# Altium schematic symbol library Ground Station.SCHLIB: 23 symbols
Pins are listed as number, name and electrical type; pins without a type are passive.

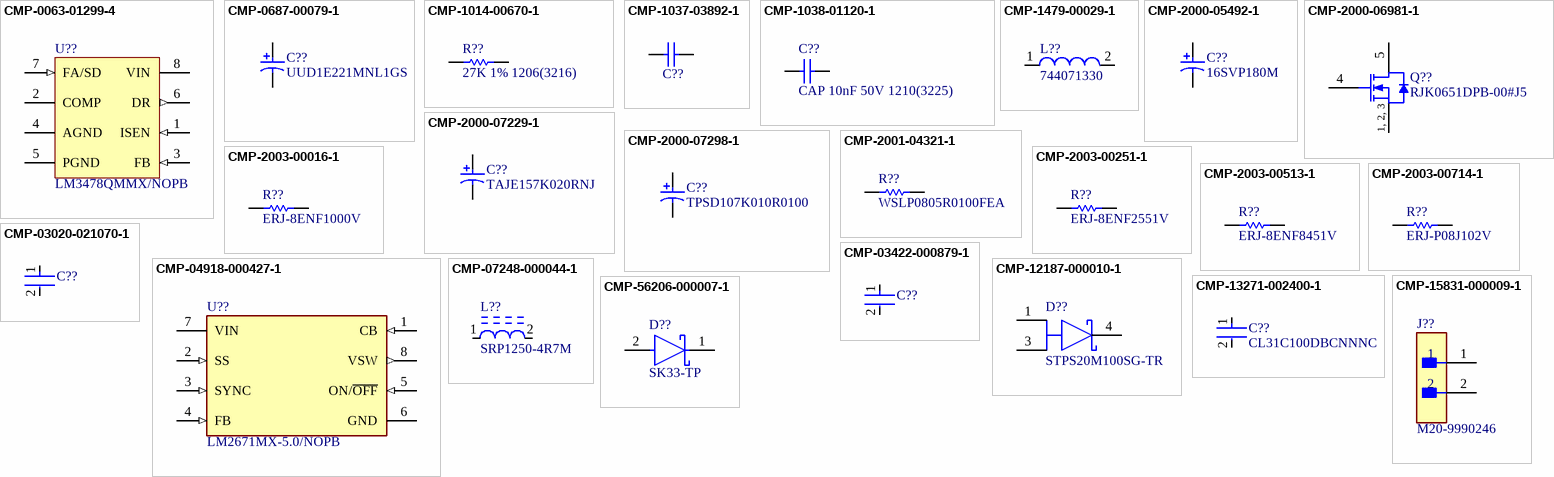
[diagram p0: symbols CMP-0063-01299-4 to CMP-56206-000007-1]

## CMP-0063-01299-4
designator U??, comment LM3478QMMX/NOPB
High Efficiency Low-Side N-Channel Controller for Switching Regulator, Automotive Grade 1, 8-pin MSOP, Pb-Free, 3500 Reel; Manufacturer: Texas Instruments; Manufacturer: TI National Semiconductor; CompType: MiscPower; High-Reliability: Y; PowerWise: N; PackageTopMarking: ZXTT*SSFB; PackageReference: DGK0008A; ComponentLink1Description: Datasheet URL; PackageDescription: MINI SOIC, .118 x .118 x .034in, 8 Lead, .0256in Pitch; ComponentLink1URL: http://www.ti.com/general/docs/lit/getliterature.tsp?genericPartNumber=LM3478Q-Q1&fileType=pdf; PartNumber: LM3478QMMX/NOPB; RoHS: Y; Code_JEDEC: MO-187-AA; PinCount: 8; Manufacturer Part Number: LM3478QMMX/NOPB
footprint DGK0008A_N (TSOP, 8-Leads, Body 3.1x3.1mm, Pitch 0.65mm, IPC Medium Density)
footprint DGK0008A_L (TSOP, 8-Leads, Body 3.1x3.1mm, Pitch 0.65mm, IPC High Density)
footprint DGK0008A_M (TSOP, 8-Leads, Body 3.1x3.1mm, Pitch 0.65mm, IPC Low Density)
pins: 1 ISEN (in), 2 COMP, 3 FB (in), 4 AGND (power), 5 PGND (power), 6 DR (out), 7 FA/SD (in), 8 VIN (power)

## CMP-0687-00079-1
designator C??, comment UUD1E221MNL1GS
Aluminum Electrolytic Capacitor, UD Series, Low Impedance, 220 uF, 25 V, + / - 20%, -55 to 105 degC, Chip Type, 8 x 10 mm D x L, Pb-Free, Reel; Manufacturer: Nichicon; Impedance: 0.17 Ohm; Tolerance Rated Capacitance: -20 to 20%; Packing: Dia382mm Reel; Endurance Time: 5000 h; Rated Voltage: 25 V; Rated Ripple Current (at 100kHz): 450 mA; Rated Capacitance: 220 uF; PartNumber: UUD1E221MNL1GS; DatasheetVersion: 08/2012; ComponentLink1Description: Manufacturer URL; Length: 10 mm; ComponentLink3Description: Package Specification; RoHS: TRUE; ComponentLink2Description: Datasheet; Diameter: 8 mm; ComponentLink2URL: http://products.nichicon.co.jp/en/pdf/XJA043/e-ud.pdf; ComponentLink3URL: http://products.nichicon.co.jp/en/pdf/XJA043/e-ud.pdf; PackageReference: CAPAE-D8H10; ComponentLink1URL: http://www.nichicon.co.jp/; PackageDescription: 2-Pin Surface Mount Device, Diameter 8 mm, Height 10 mm, Pitch 6.5 mm; Mounting Technology: Surface Mount; Manufacturer Part Number: UUD1E221MNL1GS
footprint NIC-CAPA2-8X10_V (Aluminum Electrolytic Capacitor, Diameter 8mm, Height 10.8mm, Pitch 6.5mm)
pins: 1, 2

## CMP-1014-00670-1
designator R??, comment 27K 1% 1206(3216)
27K 0.25W 1% 1206 (3216 Metric)  SMD; Manufacturer: Yageo; Manufacturer Part Number: RC1206FR-0727KL; Manufacturer: Vishay Dale; Manufacturer Part Number: CRCW120627K0FKEB; Manufacturer: Vishay; Manufacturer Part Number: CRCW120627K0FKEA; Manufacturer Part Number: CRCW120627K0FKTA; Manufacturer: Rohm; Manufacturer Part Number: MCR18EZPF2702; Manufacturer: Panasonic; Manufacturer Part Number: ERJ-8ENF2702V; Manufacturer: Bourns; Manufacturer Part Number: CR1206-FX-2702ELF; Value: 27000.00 Ohm; Case-EIA: 1206; Case-Metric: 3216; Power: 0.25 W; Tolerance: 1 %; Technology: SMT
footprint RESC1206(3216)_M (Chip Resistor, Body 3.2x1.6mm, IPC Low Density)
footprint RESC1206(3216)_N (Chip Resistor, Body 3.2x1.6mm, IPC Medium Density)
footprint RESC1206(3216)_L (Chip Resistor, Body 3.2x1.6mm, IPC High Density)
pins: 1, 2
1 alternate drawing of the same symbol

## CMP-1037-03892-1
designator C??, comment CAP 33nF 100V 1206(3216)  (value not drawn)
CAP 33nF 100V ±10% 1206 (3216 Metric) Thickness 1.3mm SMD; Manufacturer: Kyocera AVX; Manufacturer Part Number: 12061C333KAT2A; Manufacturer: Murata; Manufacturer Part Number: GRM31MR72A333KA01L; Manufacturer: Vishay Vitramon; Manufacturer Part Number: VJ1206Y333KXBCW1BC; Manufacturer: KEMET; Manufacturer Part Number: C1206C333K1RAC; Manufacturer Part Number: VJ1206Y333KXBPW1BC; Manufacturer Part Number: C1206C333K1GACTU; Manufacturer Part Number: C1206C333K1RACTU; Manufacturer Part Number: C1206C333K1RACTM; Manufacturer Part Number: 12061C333KAT4A; Manufacturer Part Number: C1206C333K1GAC; Tolerance: Â±10%; Case-Metric: 3216; Case-EIA: 1206; Technology: SMT; Rated Voltage: 100 V; Value: 33nF; Max Thickness: 1.3 mm
footprint CAPC1206(3216)130_L (Chip Capacitor, Body 3.2x1.6mm, Height 1.3mm, IPC High Density)
footprint CAPC1206(3216)130_N (Chip Capacitor, Body 3.2x1.6mm, Height 1.3mm, IPC Medium Density)
footprint CAPC1206(3216)130_M (Chip Capacitor, Body 3.2x1.6mm, Height 1.3mm, IPC Low Density)
pins: 1, 2
1 alternate drawing of the same symbol

## CMP-1038-01120-1
designator C??, comment CAP 10nF 50V 1210(3225)
CAP 10nF 50V ±5% 1210 (3225 Metric) Thickness 1mm SMD; Manufacturer: Kyocera AVX; Manufacturer Part Number: 12105A103JAT2A; Manufacturer Part Number: 12105C103JAT2A; Manufacturer Part Number: 12105A103JAT4A; Manufacturer Part Number: 12105A103JAT9A; Manufacturer: KEMET; Manufacturer Part Number: C1210C103J5RAC; Manufacturer Part Number: C1210C103J5RACTM; Manufacturer Part Number: C1210C103J5RACTU; Case-EIA: 1210; Case-Metric: 3225; Tolerance: Â±5%; Technology: SMT; Max Thickness: 1 mm; Value: 10nF; Rated Voltage: 50 V
footprint CAPC1210(3225)100_L (Chip Capacitor, Body 3.2x2.5mm, Height 1mm, IPC High Density)
footprint CAPC1210(3225)100_M (Chip Capacitor, Body 3.2x2.5mm, Height 1mm, IPC Low Density)
footprint CAPC1210(3225)100_N (Chip Capacitor, Body 3.2x2.5mm, Height 1mm, IPC Medium Density)
pins: 1, 2
1 alternate drawing of the same symbol

## CMP-1479-00029-1
designator L??, comment 744071330
SMD Shielded Tiny Power Inductor WE-TPC, L=33.0 µH; Manufacturer: Wuerth Elektronik; Manufacturer: Wurth Electronics; Inductance: 33.0 ÂµH; PartNumber: 744071330; ComponentLink2URL: http://www.we-online.de/katalog/media/pdf/744071330.pdf; ComponentLink2Description: Datasheet; ComponentLink1Description: Manufacturer URL; PackageReference: WE-TPC 8043; ComponentLink1URL: http://www.we-online.com; Manufacturer Part Number: 744071330
footprint WE-TPC 8043 (SMD Inductor, 2-Leads, Body 8,0x8,0mm)
pins: 1, 2

## CMP-2000-05492-1
designator C??, comment 16SVP180M
Conductive Polymer Aluminum Solid Capacitor, 180 uF, +/- 20%, 16 V, -55 to 105 degC, 2-Pin SMD (E12), RoHS, Tape and Reel; Manufacturer: Panasonic; Voltage Rating: 16V; Product Range: PANASONIC-SVPSeries; Capacitance: 180µF; Ripple Current AC: 3.64A; ESR: 0.02ohm; Capacitor Case Style: RadialCan-SMD; Life Time @ Temperature: 2000hours@105°C; SVHC: ToBeAdvised; Package Description: 2-Pin Surface Mount Device, Body 8.3 x 8.3 mm; Datasheet URL: https://industrial.panasonic.com/cdbs/www-data/pdf/AAB8000/AAB8000C193.pdf; Manufacturer URL: http://www.panasonic.com/; Datasheet Version: 11/2015; Packaging: CutTape; Diameter: 8mm; Package Reference: SVP-E12; Height: 11.9mm; Mounting Technology: SurfaceMount; Operating Temperature Min: -55°C; Capacitance Tolerance: ±20%; Operating Temperature Max: 105°C; Manufacturer Part Number: 16SVP180M
footprint PNSC-SVP-E12_L (Aluminum Electrolytic Capacitor, Body 8.30x8.30x12.00mm, IPC High Density)
footprint PNSC-SVP-E12_M (Aluminum Electrolytic Capacitor, Body 8.30x8.30x12.00mm, IPC Low Density)
footprint PNSC-SVP-E12_N (Aluminum Electrolytic Capacitor, Body 8.30x8.30x12.00mm, IPC Medium Density)
pins: 1, 2

## CMP-2000-06981-1
designator Q??, comment RJK0651DPB-00#J5
Silicon N Channel Power MOSFET Power Switching, 60 V, 25 A, 14 Ohm, 5-Pin LFPAK, RoHS, Tape and Reel; Manufacturer: Renesas; Gate Charge (Qg) @ Vgs: 15nC@4.5V; Current - Continuous Drain (Id) @ 25°C: 25A(Ta); FET Feature: LogicLevelGate,4.5VDrive; Input Capacitance (Ciss) @ Vds: 2030pF@10V; Drain to Source Voltage (Vdss): 60V; PCN Assembly/Origin: PowerTransistorsRelocation12/Nov/2013; Rds On (Max) @ Id, Vgs: 14mOhm@12.5A,10V; Other Names: RJK0651DPB-00#J5-NDRJK0651DPB-00#J5TR; FET Type: MOSFETN-Channel,MetalOxide; Power - Max: 45W; Online Catalog: N-ChannelLogicLevelGateFETs; Mounting Technology: SurfaceMount; Datasheet Version: Rev. 2.00, 04/2013; Datasheet URL: https://www.renesas.com/en-us/doc/products/transistor/001/r07ds0076ej0200_rjk0651dpb.pdf; Vgs(th) (Max) @ Id: -; Series: -; Standard Package: 2,500; Package Reference: LFPAK-5; Manufacturer URL: https://www.renesas.com/; Family: FETs-Single; Mounting Type: SurfaceMount; Package / Case: SC-100,SOT-669; Package Description: 5-Pin Surface Mount Device, Body 5.1 x 3.95 mm, Pitch 1.27 mm; Packaging: Tape&Reel(TR); Category: DiscreteSemiconductorProducts; Supplier Device Package: LFPAK; Manufacturer Part Number: RJK0651DPB-00#J5
footprint RENE-LFPAK-5_L (DPAK, 5-Leads, Body 5.3x3.95mm, Pitch 1.27mm, IPC High Density)
footprint RENE-LFPAK-5_M (DPAK, 5-Leads, Body 5.3x3.95mm, Pitch 1.27mm, IPC Low Density)
footprint RENE-LFPAK-5_N (DPAK, 5-Leads, Body 5.3x3.95mm, Pitch 1.27mm, IPC Medium Density)
pins: 1 SOURCE, 2 SOURCE, 3 SOURCE, 4 GATE, 5 DRAIN
text: 1, 2, 3

## CMP-2000-07229-1
designator C??, comment TAJE157K020RNJ
Standard Tantalum Capacitor, 150 uF, +/- 10%, 20 V, -55 to 125 degC, 2-Pin SMD, RoHS, Tape and Reel; Manufacturer: AVX; Manufacturer Size Code: E; PCN Part Number: TAJSeriesSuffix08/Dec/2008; Manufacturer: Kyocera AVX; Capacitance: 150µF; Catalog Drawings: TAJSeriesSideTAJSeries; Type: Molded; Online Catalog: TAJSeries; Product Training Modules: ComponentSolutionsforSmartMeterApplications; ESR (Equivalent Series Resistance): 300mOhm; Voltage - Rated: 20V; EDA / CAD Models: DownloadfromAcceleratedDesigns; Other Names: 478-2360-1; Package Description: 2-Pin Surface Mount Device, Body 7.3 x 4.35 mm; Manufacturer URL: http://www.avx.com/; Mounting Technology: SurfaceMount; Standard Package: 1; Tolerance: ±10%; Features: GeneralPurpose; Operating Temperature: -55°C~125°C; Family: TantalumCapacitors; Size / Dimension: 0.287"Lx0.169"W(7.30mmx4.30mm); Series: TAJ; Category: Capacitors; Lead Spacing: -; Packaging: CutTape(CT); Datasheet Version: 02/2016; Mounting Type: SurfaceMount; Datasheet URL: http://datasheets.avx.com/TAJ.pdf; Package / Case: 2917(7343Metric); Lifetime @ Temp.: -; Package Reference: 7343-43; Height - Seated (Max): 0.169"(4.30mm); Manufacturer Part Number: TAJE157K020RNJ
footprint AVX-7343-43_L (Molded Capacitor, 2-Leads, Body 7.5x4.5mm, IPC High Density)
footprint AVX-7343-43_M (Molded Capacitor, 2-Leads, Body 7.5x4.5mm, IPC Low Density)
footprint AVX-7343-43_N (Molded Capacitor, 2-Leads, Body 7.5x4.5mm, IPC Medium Density)
pins: 1, 2

## CMP-2000-07298-1
designator C??, comment TPSD107K010R0100
Tantalum Capacitor, 100 uF, +/- 10%, 10 V, -55 to 125 degC, 2917 (7343 Metric), RoHS, Tape and Reel; Manufacturer Size Code: D; Manufacturer: AVX; Manufacturer: Kyocera AVX; Voltage - Rated: 10V; Other Names: 478-1777-1; Featured Product: TPSCapacitors; Catalog Drawings: TPSSeriesSides; Online Catalog: TPSSeries; Type: Molded; Capacitance: 100µF; Product Training Modules: ComponentSolutionsforSmartMeterApplications; ESR (Equivalent Series Resistance): 100mOhm; Height - Seated (Max): 0.122"(3.10mm); Tolerance: ±10%; Standard Package: 1; Manufacturer URL: http://www.avx.com/; Mounting Technology: SurfaceMount; Series: TPS; Package / Case: 2917(7343Metric); Lead Spacing: -; Lifetime @ Temp.: -; Package Reference: 7343-31; Mounting Type: SurfaceMount; Size / Dimension: 0.287"Lx0.169"W(7.30mmx4.30mm); Operating Temperature: -55°C~125°C; Features: GeneralPurpose; Datasheet URL: http://datasheets.avx.com/TPS.pdf; Datasheet Version: 01/2017; Package Description: 2-Pin Surface Mount Device, Body 7.3 x 4.35 mm; Category: Capacitors; Packaging: CutTape(CT); Family: TantalumCapacitors; Manufacturer Part Number: TPSD107K010R0100
footprint AVX-7343-31_L (Molded Capacitor, 2-Leads, Body 7.5x4.5mm, IPC High Density)
footprint AVX-7343-31_M (Molded Capacitor, 2-Leads, Body 7.5x4.5mm, IPC Low Density)
footprint AVX-7343-31_N (Molded Capacitor, 2-Leads, Body 7.5x4.5mm, IPC Medium Density)
pins: 1, 2

## CMP-2001-04321-1
designator R??, comment WSLP0805R0100FEA
Manufacturer: Vishay Dale; Part Number: WSLP0805R0100FEA; Manufacturer Part Number: WSLP0805R0100FEA
footprint RESC2013X58X38LL25T25 (Chip Resistor, 2-Leads, Body 2.03x1.27mm, IPC High Density)
footprint RESC2013X58X38ML25T25 (Chip Resistor, 2-Leads, Body 2.03x1.27mm, IPC Low Density)
footprint RESC2013X58X38NL25T25 (Chip Resistor, 2-Leads, Body 2.03x1.27mm, IPC Medium Density)
pins: 1, 2
1 alternate drawing of the same symbol

## CMP-2003-00016-1
designator R??, comment ERJ-8ENF1000V
Manufacturer: Panasonic; Part Number: ERJ-8ENF1000V
footprint RESC3216X70X50NL05T20 (Chip Resistor, 2-Leads, Body 3.20x1.60mm, IPC Medium Density)
footprint RESC3216X70X50LL05T20 (Chip Resistor, 2-Leads, Body 3.20x1.60mm, IPC High Density)
pins: 1, 2
1 alternate drawing of the same symbol

## CMP-2003-00251-1
designator R??, comment ERJ-8ENF2551V
Manufacturer: Panasonic; Part Number: ERJ-8ENF2551V; Manufacturer Part Number: ERJ-8ENF2551V
footprint RESC3216X70X50LL05T20 (Chip Resistor, 2-Leads, Body 3.20x1.60mm, IPC High Density)
footprint RESC3216X70X50NL05T20 (Chip Resistor, 2-Leads, Body 3.20x1.60mm, IPC Medium Density)
pins: 1, 2
1 alternate drawing of the same symbol

## CMP-2003-00513-1
designator R??, comment ERJ-8ENF8451V
Manufacturer: Panasonic; Part Number: ERJ-8ENF8451V; Manufacturer Part Number: ERJ-8ENF8451V
footprint RESC3216X70X50LL05T20 (Chip Resistor, 2-Leads, Body 3.20x1.60mm, IPC High Density)
footprint RESC3216X70X50NL05T20 (Chip Resistor, 2-Leads, Body 3.20x1.60mm, IPC Medium Density)
pins: 1, 2
1 alternate drawing of the same symbol

## CMP-2003-00714-1
designator R??, comment ERJ-P08J102V
Manufacturer: Panasonic; Part Number: ERJ-P08J102V; Manufacturer Part Number: ERJ-P08J102V
footprint RESC3216X70X50NL05T20 (Chip Resistor, 2-Leads, Body 3.20x1.60mm, IPC Medium Density)
footprint RESC3216X70X50LL05T20 (Chip Resistor, 2-Leads, Body 3.20x1.60mm, IPC High Density)
pins: 1, 2
1 alternate drawing of the same symbol

## CMP-03020-021070-1
designator C??, comment C1206C104K4RACTU  (value not drawn)
CAP CER 0.1UF 16V 10% X7R 1206; Manufacturer: KEMET; Automotive Grade: Grade 0; Tolerance: 0.1; Temperature Coefficient: 15%; Capacitance: 0.10 μF; Material: Ceramic; Value: 0.10 μF; Manufacturer Part Number: C1206C104K4RACTU; ComponentLink2URL: https://content.kemet.com/datasheets/KEM_C1007_X8R_ULTRA_150C_SMD.pdf; Voltage Rating: 16 V; Temperature Range Low: -55°C; Device Class L3: Ceramic Capacitors; Device Class L1: Passive Components; Lead Free: Yes; Temperature Characteristic: X7R; Package: C1206C-EB; RoHS: TRUE; Ipc Land Pattern Name: CAPC320160X78; Automotive: Yes; Temperature: -55°C to +150°C; Category: Cap; Digikey Description: CAP CER 0.1UF 16V 10% X7R 1206; Mouser Description: Multilayer Ceramic Capacitors MLCC - SMD/SMT 16volts 0.1uF X7R 10%; ComponentLink2Description: Datasheet; Temperature Range High: +150°C; Device Class L2: Capacitors; Height: 0.88mm; Octopart: https://octopart.com/c1206c104k4ractu-kemet-12577600
footprint FP-C1206C-EB-MFG
footprint FP-C1206C-EB-IPC_C
footprint FP-C1206C-EB-IPC_B
footprint FP-C1206C-EB-IPC_A
pins: 1, 2

## CMP-03422-000879-1
designator C??, comment CC1206KRX7R9BB152  (value not drawn)
Surface Mount Ceramic Multilayer Capacitor 0.0015uF 10% X7R 50V 1206 Paper T/R; Manufacturer: Yageo; Value: 1.5 nF; Temperature Coefficient: 15%; Automotive Grade: NA; Tolerance: 0.1; Material: Ceramic; Device Class L2: Capacitors; Temperature Range Low: -55°C; Temperature: -55°C to +125°C; ComponentLink2URL: http://www.yageo.com/documents/recent/UPY-NP0X7R_HV_1KV-to-3KV_11.pdf; RoHS: TRUE; Temperature Range High: +125°C; Height: 1.45mm; Digikey Description: Surface Mount Ceramic Multilayer Capacitor 0.0015uF 10% X7R 50V 1206 Paper T/R; Package: CC1206-1.25; Device Class L1: Passive Components; Temperature Characteristic: X7R; Device Class L3: Ceramic Capacitors; Octopart: https://octopart.com/cc1206krx7r9bb152-yageo-193052; Category: Cap; Automotive: No; ComponentLink2Description: Datasheet; Footprint Url: http://www.yageo.com/exep/pages/download/literatures/UPY-C_GEN_24.pdf; Voltage Rating: 50 V; Lead Free: Yes; Mouser Description: 1206 1.5 nF 50 V ±10 % Tolerance X7R SMT Multilayer Ceramic Capacitor; Capacitance: 1.5 nF; Manufacturer Part Number: CC1206KRX7R9BB152
footprint FP-CC1206-1_25-MFG
footprint FP-CC1206-1_25-IPC_C
footprint FP-CC1206-1_25-IPC_B
footprint FP-CC1206-1_25-IPC_A
pins: 1, 2

## CMP-04918-000427-1
designator U??, comment LM2671MX-5.0/NOPB
IC REG BUCK 5V 500MA 8SOIC; Manufacturer: Texas Instruments; Number of Outputs: 1; Output Type: Fixed; Operating Supply Voltage: 40V; Switching Frequency: 260kHz; Quiescent Current: 2.5mA; Efficiency: 90%; Min Input Voltage: 8V; REACH SVHC: No SVHC; Mount: Surface Mount; Min Operating Temperature: -40°C; Contact Plating: Tin; Nominal Output Voltage: 5V; RoHS Compliant: Yes; Max Input Voltage: 40V; Package Quantity: 2500; Output Voltage: 5V; Number of Pins: 8; Lead Free: Lead Free; Max Operating Temperature: 125°C; Packaging: Tape and Reel; Max Output Current: 500mA; Output Current: 500mA; Case/Package: SOIC N; Manufacturer Part Number: LM2671MX-5.0/NOPB
footprint FP-D0008A-IPC_C
footprint FP-D0008A-MFG
footprint FP-D0008A-IPC_A
footprint FP-D0008A-IPC_B
pins: 1 CB (in), 2 SS (in), 3 SYNC (in), 4 FB (in), 5 ON/~{OFF} (in), 6 GND (power), 7 VIN (power), 8 VSW (out)

## CMP-07248-000044-1
designator L??, comment SRP1250-4R7M
FIXED IND 4.7UH 12A 15 MOHM SMD; Manufacturer: Bourns; Material: Ferrite; Tolerance: 20%; Shielding: Shielded; Saturation Current: 27A; Test Frequency: 100kHz; DC Resistance (DCR): 15mR; Radiation Hardening: No; DC Current: 12A; Composition: Wirewound; Military Standard: Not; Inductance: 4.7uH; Case/Package: Nonstandard; Max Operating Temperature: 150°C; Number of Pins: 2; Inductance Tolerance: 20%; Core Material: Ferrite; Current Rating: 12A; Min Operating Temperature: -55°C; RMS Current (Irms): 12A; Termination: SMD/SMT; Mount: Surface Mount; Max DC Current: 12A; Height - Seated (Max): 0.205inch; Package Quantity: 500; Depth: 13.5mm; Width: 13.5mm; Length: 13.9mm; Packaging: Tape and Reel; Height: 5.2mm; REACH SVHC: No SVHC; Manufacturer Part Number: SRP1250-4R7M
footprint FP-SRP1250-MFG
pins: 1, 2

## CMP-12187-000010-1
designator D??, comment STPS20M100SG-TR
DIODE SCHOTTKY 100V 20A D2PAK; Manufacturer: STMicroelectronics; Peak Reverse Current: 10uA; Max Junction Temp: +150°C; Standoff Height: 0mm; Max Surge Forward Current: 350A; Forward Current: 20A; Temperature: to +150°C; Device Class L3: Schottky Diodes; Temperature Range High: +150°C; Device Class L1: Discrete Semiconductors; Mouser Description: Schottky Diodes & Rectifiers 20A 100V; Category: Diode; Max Repetitive Reverse Voltage: 100V; ComponentLink2Description: Datasheet; RoHS: TRUE; ComponentLink2URL: https://www.st.com/resource/en/datasheet/stps20m100s.pdf; Octopart: https://octopart.com/stps20m100sg-tr-stmicroelectronics-17669033; Lead Free: Yes; Package: STPS20M100SG-TR; Height: 4.85mm; Device Class L2: Diodes; Automotive: No; Digikey Description: DIODE SCHOTTKY 100V 20A D2PAK; Manufacturer Part Number: STPS20M100SG-TR
footprint FP-STPS20M100SG-TR-MFG
pins: 1 A, 3 A, 4 K

## CMP-13271-002400-1
designator C??, comment CL31C100DBCNNNC
Cap Ceramic 10pF 50V C0G ±0.5pF SMD 1206 +125°C Embossed T/R; Manufacturer: Samsung; Case Code (Imperial): 1206; Capacitance: 10pF; Max Operating Temperature: 125°C; Thickness: 0.039inch; Case/Package: 1206; Min Operating Temperature: -55°C; Package Quantity: 1; Mount: Surface Mount; Dielectric: C0G; Length: 3.2mm; Depth: 1.6mm; Radiation Hardening: No; Voltage Rating: 50V; Height: 0.85mm; Packaging: Tape and Reel; Lead Free: Lead Free; Case Code (Metric): 3216; Width: 0.063inch; Voltage Rating (DC): 50V; Manufacturer Part Number: CL31C100DBCNNNC
footprint FP-CL31-IPC_C
footprint FP-CL31-IPC_B
footprint FP-CL31-IPC_A
pins: 1, 2

## CMP-15831-000009-1
designator J??, comment M20-9990246
CONN HEADER VERT 2POS 2.54MM; Manufacturer: Harwin; Conn Gender: Male; Conn Orientation: Vertical; Number Of Contacts: 2; Current Rating: 3A; ComponentLink2URL: https://cdn.harwin.com/pdfs/M20-999.pdf; ComponentLink2Description: Datasheet; Package: M20-9990246; Temperature: -40°C to +105°C; Octopart: https://octopart.com/m20-9990246-harwin-2590635; Mouser Description: 2.54mm (0.1") Pitch SIL Vertical PC Tail Pin Header, 6.1mm mating pin height, tin, 2 contacts; Temperature Range High: +105°C; Device Class L1: Connectors; RoHS: TRUE; Automotive: No; Height: 8.99mm; Number Of Rows: 1; Contact Material: Tin,Nickel; Category: Conn; Pitch: 2.54mm; Lead Free: Yes; Digikey Description: CONN HEADER VERT 2POS 2.54MM; Manufacturer Part Number: M20-9990246; Temperature Range Low: -40°C; Device Class L3: unset; Device Class L2: Headers and Wire Housings
footprint FP-M20-9990246-MFG
pins: 1, 2

## CMP-56206-000007-1
designator D??, comment SK33-TP
DIODE SCHOTTKY 30V 3A DO214AB; Manufacturer: MCC; Max Forward Surge Current (Ifsm): 100A; Peak Reverse Current: 500uA; Element Configuration: Single; Polarity: Standard; Forward Voltage: 500mV; Capacitance: 250pF; Max Surge Current: 100A; Length: 7.11mm; Max Reverse Voltage (DC): 30V; Max Reverse Leakage Current: 500uA; Min Operating Temperature: -55°C; Case/Package: SMC; Mount: Surface Mount; Voltage Rating (DC): 30V; Width: 6.22mm; Package Quantity: 1; Packaging: Tape and Reel; Peak Non-Repetitive Surge Current: 100A; Number of Pins: 2; Current Rating: 3A; Output Current: 3A; Max Repetitive Reverse Voltage (Vrrm): 30V; Forward Current: 3A; Radiation Hardening: No; Height: 2.417mm; Lead Free: Lead Free; Average Rectified Current: 3A; Max Operating Temperature: 150°C; Manufacturer Part Number: SK33-TP
footprint FP-SMC-MFG
pins: 1 C, 2 A